# EAGLE library part MC33996 (library df4iah_dataconvertion)
NXP MC33996 16 Output Switch with SPI Control - Low side switch
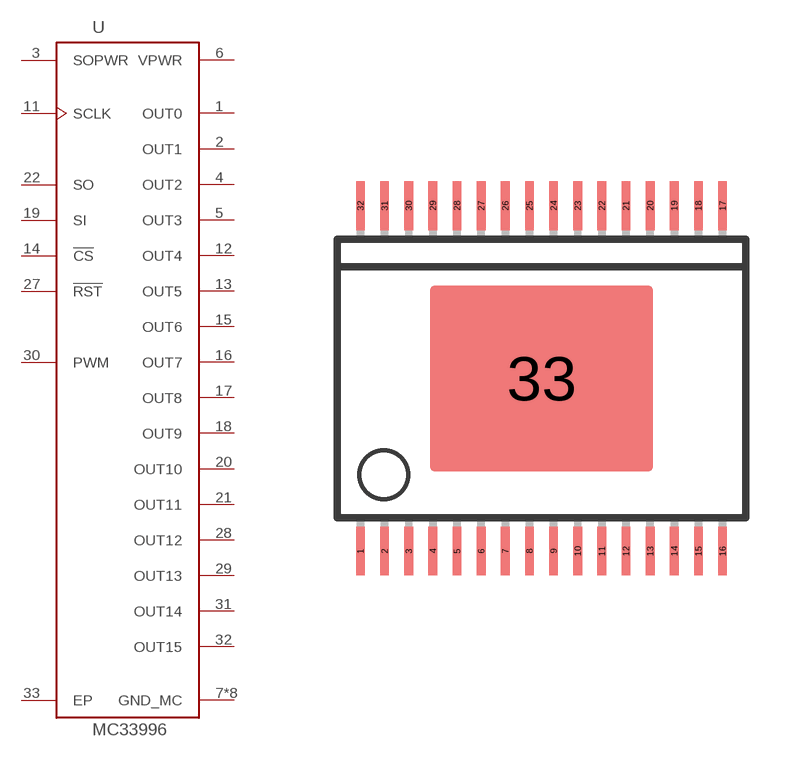
[diagram p7: symbol with the pads of SOICW32; footprint SOICW32]

Designator prefix U

## MC33996  [SOICW32]
1  OUT0  pas
2  OUT1  pas
3  SOPWR  pwr
4  OUT2  pas
5  OUT3  pas
6  VPWR  pwr
7  GND_MC  pas
8  GND_MC  pas
9  GND_MC  pas
10  GND_MC  pas
11  SCLK  in
12  OUT4  pas
13  OUT5  pas
14  !CS  in
15  OUT6  pas
16  OUT7  pas
17  OUT8  pas
18  OUT9  pas
19  SI  in
20  OUT10  pas
21  OUT11  pas
22  SO  out
23  GND_MC  pas
24  GND_MC  pas
25  GND_MC  pas
26  GND_MC  pas
27  !RST  in
28  OUT12  pas
29  OUT13  pas
30  PWM  in
31  OUT14  pas
32  OUT15  pas
33  EP  pas

## Footprint SOICW32 (pad centres in mm)
SMALL OUTLINE INTEGRATED CIRCUIT
smd 0.25 x 1.3: 1 -4.875,-4.65; 2 -4.225,-4.65; 3 -3.575,-4.65; 4 -2.925,-4.65; 5 -2.275,-4.65; 6 -1.625,-4.65; 7 -0.975,-4.65; 8 -0.325,-4.65; 9 0.325,-4.65; 10 0.975,-4.65; 11 1.625,-4.65; 12 2.275,-4.65; 13 2.925,-4.65; 14 3.575,-4.65; 15 4.225,-4.65; 16 4.875,-4.65; 17 4.875,4.65; 18 4.225,4.65; 19 3.575,4.65; 20 2.925,4.65; 21 2.275,4.65; 22 1.625,4.65; 23 0.975,4.65; 24 0.325,4.65; 25 -0.325,4.65; 26 -0.975,4.65; 27 -1.625,4.65; 28 -2.275,4.65; 29 -2.925,4.65; 30 -3.575,4.65; 31 -4.225,4.65; 32 -4.875,4.65
smd 6 x 5: 33 0,0